# EAGLE library part BOXHD-10 (library omcConnector)
Box Header 2X5 Mechanical Terminals: 10 Rows: 2 Operating Temperature: -55°C...+105°C Electrical Imax: 3A RInsulation,min: 1000MΩ Rcontact,max: 20mΩ VAC: 550V
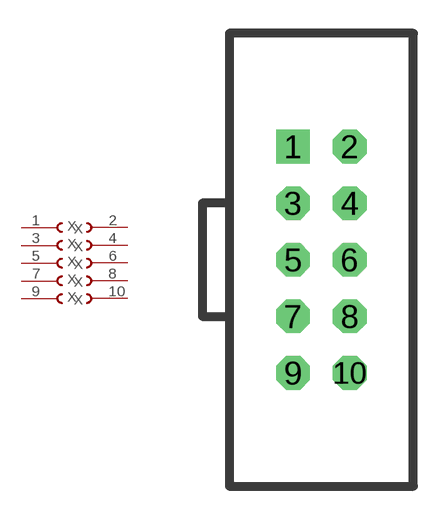
[diagram p7: symbol with the pads of BOXHD-10-2.54-S; footprint BOXHD-10-2.54-S]

Designator prefix X; gates G$1=PHDL G$2=PHDR G$3=PHDL G$4=PHDR G$5=PHDL G$6=PHDR G$7=PHDL G$8=PHDR G$9=PHDL G$10=PHDR

## BOXHD-10-2.54 (DIST#REICHELT#: WSL 10G; VALUE: 2X5)  [BOXHD-10-2.54-S]
1  G$1:P$1
2  G$2:P$1
3  G$3:P$1
4  G$4:P$1
5  G$5:P$1
6  G$6:P$1
7  G$7:P$1
8  G$8:P$1
9  G$9:P$1
10  G$10:P$1

## Footprint BOXHD-10-2.54-S (pad centres in mm)
Box Header 2X05 - Straight Technology: THT Pitch: 2.54mm Mechanical Reference (Reichelt) <http://cdn-reichelt.de/documents/datenblatt/C151/BH1S-XX-L.pdf>
drill 1 square: 1 -1.27,5.08
drill 1 octagon: 2 1.27,5.08; 3 -1.27,2.54; 4 1.27,2.54; 5 -1.27,0; 6 1.27,0; 7 -1.27,-2.54; 8 1.27,-2.54; 9 -1.27,-5.08; 10 1.27,-5.08